# EAGLE library part LM324PW- (library glacsweb)
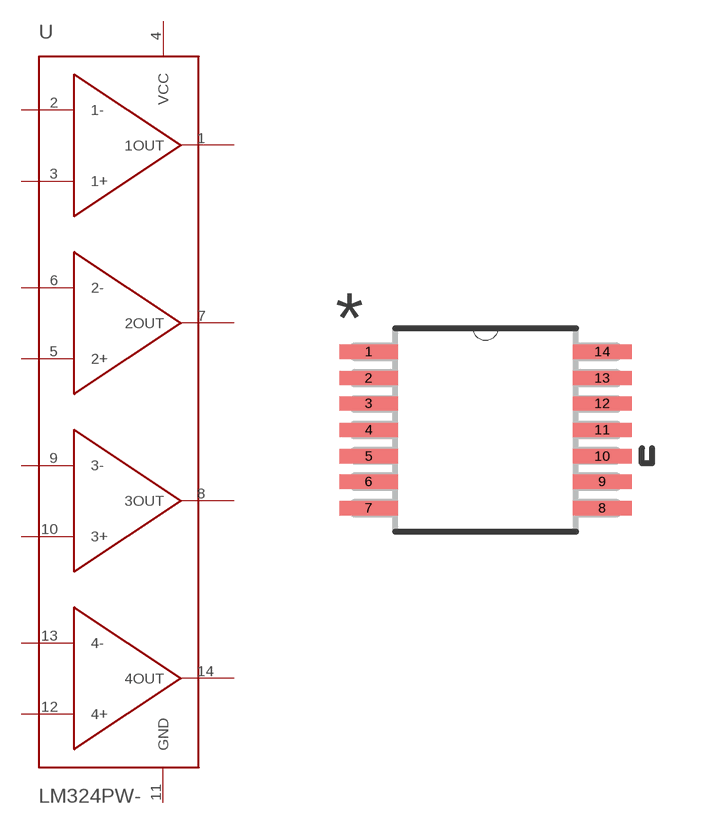
[diagram p3: symbol with the pads of SOP65P640X120-14N; footprint SOP65P640X120-14N]

Designator prefix -

## LM324PW- (MANUFACTURER: Texas Instruments; MPN: LM324PW; OC_FARNEL: 8389241; PACKAGE: 14-TSSOP)  [SOP65P640X120-14N]
1  1OUT  out
2  1-  in
3  1+  in
4  VCC  pwr
5  2+  in
6  2-  in
7  2OUT  out
8  3OUT  out
9  3-  in
10  3+  in
11  GND  pwr
12  4+  in
13  4-  in
14  4OUT  out

## Footprint SOP65P640X120-14N (pad centres in mm)
smd 1.473 x 0.356: 1 -2.921,1.956; 2 -2.921,1.295; 3 -2.921,0.66; 4 -2.921,0; 5 -2.921,-0.66; 6 -2.921,-1.295; 7 -2.921,-1.956; 8 2.921,-1.956; 9 2.921,-1.295; 10 2.921,-0.66; 11 2.921,0; 12 2.921,0.66; 13 2.921,1.295; 14 2.921,1.956